# Altium footprint library PcbLib1.PcbLib: 14 footprints
Each footprint in its own frame and in the unit in brackets; x right, y up, seen from the top. Pads: shape width x height; smd on the part's side, far side on the other; paste and mask are expansions set on the pad; w line width, h text height; cw(c..) or ccw(c..) is an arc to the next point about the centre after c.
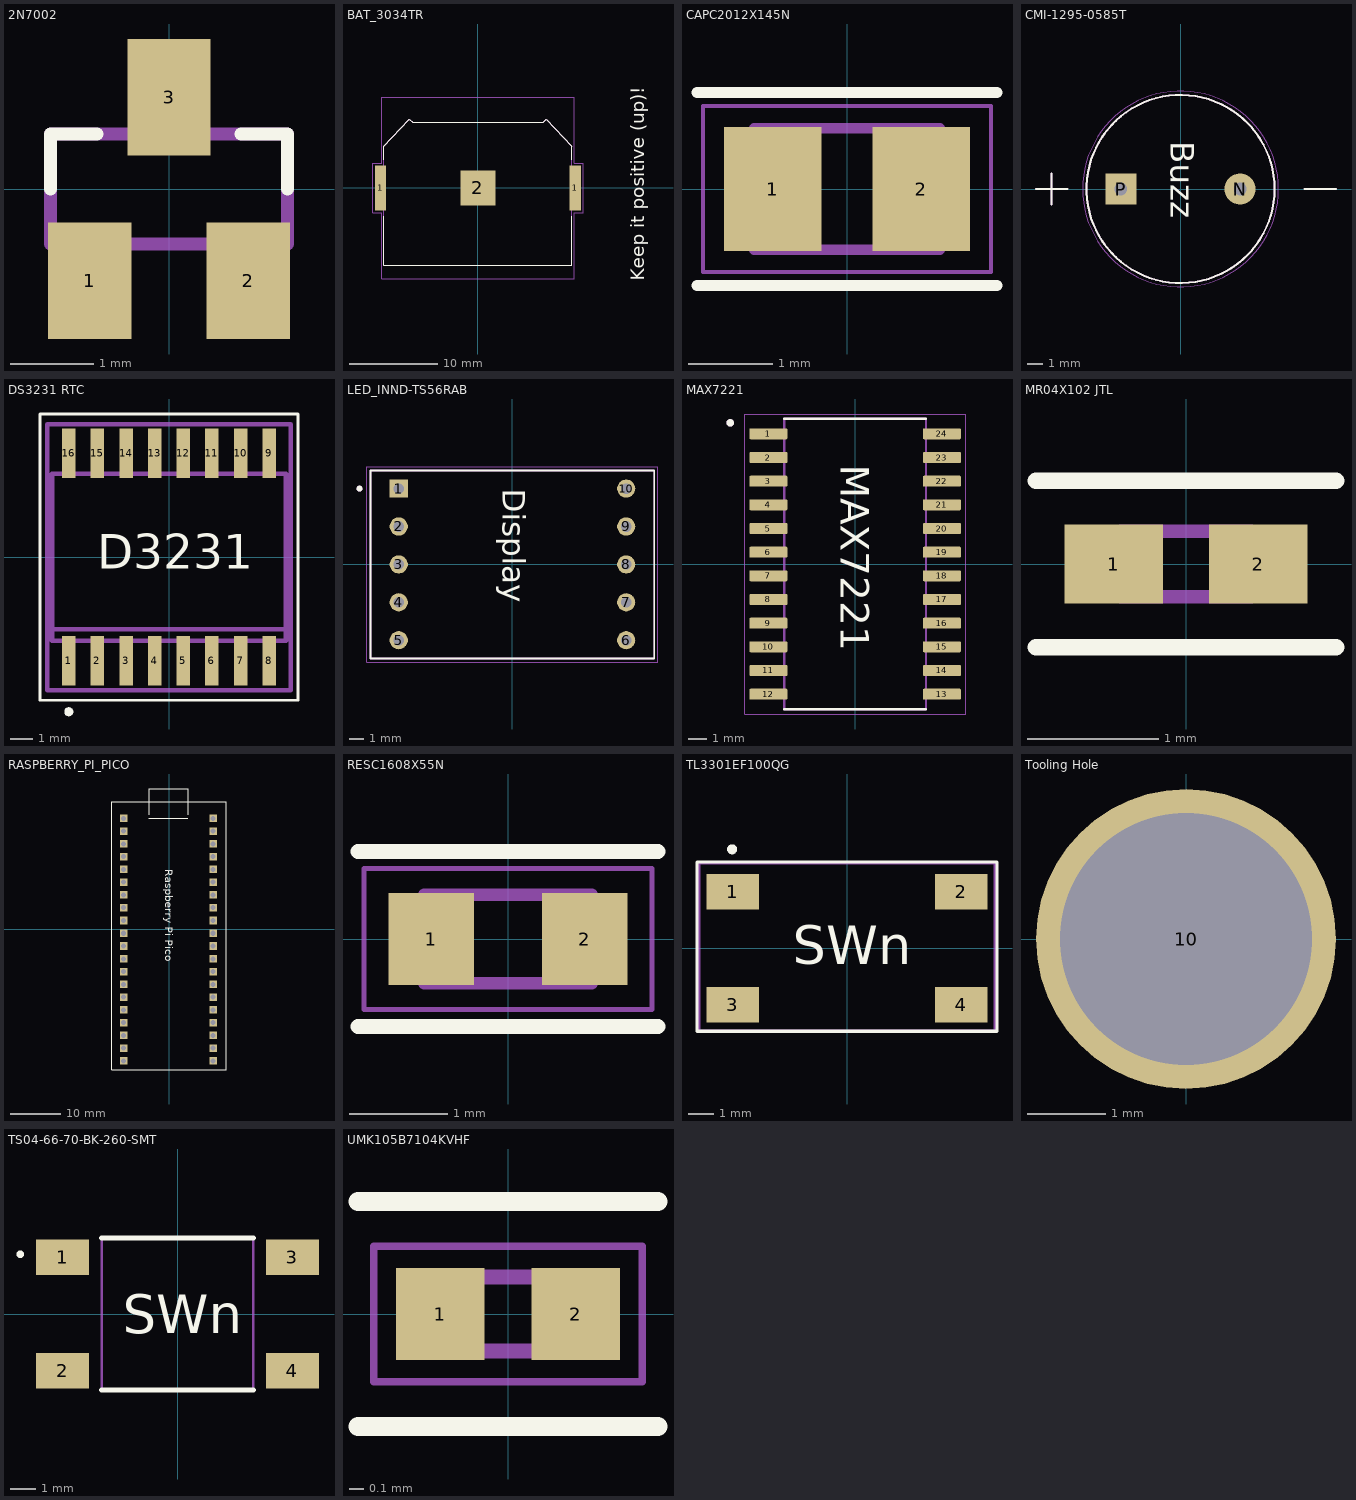
[diagram p0: the footprints below, top view; thin cyan lines are the x and y axes]

## 2N7002 [mm]
pads (3):
  rect 1x1.4 smd: 1(-0.95,-1.1) 2(0.95,-1.1) 3(0,1.1)
Top Overlay:
  lines w0.152: -1.422,0 -1.422,0.66 -0.864,0.66 ; 0.864,0.66 1.422,0.66 1.422,0
Mechanical 13:
  region: 0.229,0.713 -0.229,0.713 -0.229,1.295 0.229,1.295
  region: 1.168,-1.297 0.712,-1.297 0.712,-0.711 1.168,-0.711
  region: -0.711,-1.296 -1.169,-1.296 -1.169,-0.711 -0.711,-0.711
  lines w0.152: -1.422,-0.66 1.422,-0.66 1.422,0.66 -1.422,0.66 -1.422,-0.66
3D body "step_temp.STEP": height 1.12, standoff 0, extent -1.46,-1.185 1.46,1.185

## BAT_3034TR [mm]
height 4.31
pads (3):
  rect 1.27x5.08 smd: 1(-10.985,0) 1(10.985,0)
  rect 3.96x3.96 smd paste-3: 2(0,0)
Top Overlay:
  lines w0.127: -10.605,-3.175 -10.605,-8.729 10.605,-8.729 10.605,-3.175 ; -10.605,3.175 -10.605,4.723 -7.734,7.741 -7.366,7.391 7.366,7.391 7.734,7.741 10.605,4.723 10.605,3.175
  text "Keep it positive (up)!" at 18.796,-10.477 h1.52
Mechanical 13:
  lines w0.127: -10.605,-8.729 10.605,-8.729 10.605,4.723 7.734,7.741 7.366,7.391 -7.366,7.391 -7.734,7.741 -10.605,4.723 -10.605,-8.729
Mechanical 15:
  lines w0.05: -11.87,-2.79 -10.855,-2.79 -10.855,-10.25 10.855,-10.25 10.855,-2.79 11.87,-2.79 11.87,2.79 10.855,2.79 10.855,10.25 -10.855,10.25 -10.855,2.79 -11.87,2.79 -11.87,-2.79
3D body "step_temp.STEP": height 4.06, standoff 0, extent -11.62,-7.716 11.62,8.76

## CAPC2012X145N [mm]
pads (2):
  rect 1.15x1.47 smd: 1(-0.88,0) 2(0.88,0)
Top Overlay:
  lines w0.127: -1.778,-1.143 1.778,-1.143 ; -1.778,1.143 1.778,1.143
Mechanical 13:
  lines w0.127: -1.1,-0.72 1.1,-0.72 1.1,0.72 -1.1,0.72 -1.1,-0.72
Mechanical 15:
  lines w0.05: -1.708,-0.983 1.708,-0.983 1.708,0.983 -1.708,0.983 -1.708,-0.983
3D body "step_temp.STEP": height 1.45, standoff 0, extent -1,-0.625 1,0.625

## CMI-1295-0585T [mm]
pads (2):
  round 2 hole 0.8: N(3.8,0)
  rect 2x2 / inner round 2 / far side rect 2x2 hole 0.8: P(-3.8,0)
Top Overlay:
  circle w0.127: c0,0 r6
  lines w0.127: -9.22,0 -7.22,0 ; -8.22,-1 -8.22,1 ; 7.92,0 9.92,0
  text "Buzz" at -0.635,3.048 h1.52
Mechanical 13:
  circle w0.127: c0,0 r6
  lines w0.127: -9.22,0 -7.22,0 ; -8.22,-1 -8.22,1 ; 7.92,0 9.92,0
Mechanical 15:
  circle w0.05: c0,0 r6.25
3D body "step_temp.STEP": height 9, standoff -6, extent -6,-6 6,6

## DS3231 RTC [mm]
pads (16):
  rect 0.6x2.2 smd: 1(-4.445,-4.6) 2(-3.175,-4.6) 3(-1.905,-4.6) 4(-0.635,-4.6) 5(0.635,-4.6) 6(1.905,-4.6) 7(3.175,-4.6) 8(4.445,-4.6) 9(4.445,4.6) 10(3.175,4.6) 11(1.905,4.6) 12(0.635,4.6) 13(-0.635,4.6) 14(-1.905,4.6) 15(-3.175,4.6) 16(-4.445,4.6)
Top Overlay:
  circle w0.2: c-4.445,-6.858 r0.1
  lines w0.127: -5.715,-6.35 5.715,-6.35 5.715,6.35 -5.715,6.35 -5.715,-6.35
  text "D3231" at -3.175,-0.508 h1.52
Mechanical 13:
  region: -4.2,-5.32 -4.69,-5.32 -4.69,-3.8 -4.2,-3.8
  region: -2.93,-5.32 -3.42,-5.32 -3.42,-3.8 -2.93,-3.8
  region: -1.66,-5.32 -2.15,-5.32 -2.15,-3.8 -1.66,-3.8
  region: -0.39,-5.32 -0.88,-5.32 -0.88,-3.8 -0.39,-3.8
  region: 0.88,-5.32 0.39,-5.32 0.39,-3.8 0.88,-3.8
  region: 2.15,-5.32 1.66,-5.32 1.66,-3.8 2.15,-3.8
  region: 3.42,-5.32 2.93,-5.32 2.93,-3.8 3.42,-3.8
  region: 4.69,-5.32 4.2,-5.32 4.2,-3.8 4.69,-3.8
  region: 4.69,3.8 4.2,3.8 4.2,5.32 4.69,5.32
  region: 3.42,3.8 2.93,3.8 2.93,5.32 3.42,5.32
  region: 2.15,3.8 1.66,3.8 1.66,5.32 2.15,5.32
  region: 0.88,3.8 0.39,3.8 0.39,5.32 0.88,5.32
  region: -0.39,3.8 -0.88,3.8 -0.88,5.32 -0.39,5.32
  region: -1.66,3.8 -2.15,3.8 -2.15,5.32 -1.66,5.32
  region: -2.93,3.8 -3.42,3.8 -3.42,5.32 -2.93,5.32
  region: -4.2,3.8 -4.69,3.8 -4.69,5.32 -4.2,5.32
  lines w0.203: -5.19,-3.2 -5.19,-3.7 5.19,-3.7 5.19,-3.2 ; -5.19,-3.2 -5.19,3.7 5.19,3.7 5.19,-3.2 ; -5.19,-3.2 5.19,-3.2
Mechanical 15:
  lines w0.2: -5.395,-5.9 5.395,-5.9 5.395,5.9 -5.395,5.9 -5.395,-5.9
3D body "step_temp.STEP": height 2.65, standoff 0, extent -5.15,-5.162 5.15,5.162

## LED_INND-TS56RAB [mm]
height 8
pads (10):
  rect 1.218x1.218 / inner round 1.218 / far side rect 1.218x1.218 hole 0.71: 1(-7.62,5.08)
  round 1.218 hole 0.71: 2(-7.62,2.54) 3(-7.62,0) 4(-7.62,-2.54) 5(-7.62,-5.08) 6(7.62,-5.08) 7(7.62,-2.54) 8(7.62,0) 9(7.62,2.54) 10(7.62,5.08)
Top Overlay:
  circle w0.2: c-10.25,5.08 r0.1
  lines w0.127: -9.5,-6.3 -9.5,6.3 9.5,6.3 9.5,-6.3 -9.5,-6.3
  text "Display" at -0.635,5.08 h1.52
Mechanical 13:
  circle w0.2: c-10.25,5.08 r0.1
  lines w0.127: -9.5,-6.3 -9.5,6.3 9.5,6.3 9.5,-6.3 -9.5,-6.3
Mechanical 15:
  lines w0.05: -9.75,-6.55 -9.75,6.55 9.75,6.55 9.75,-6.55 -9.75,-6.55
3D body "step_temp.STEP": height 8, standoff -4.3, extent -9.5,-6.3 9.5,6.3

## MAX7221 [mm]
pads (24):
  rrect25% 2.05x0.59 smd: 1(-4.655,6.985) 2(-4.655,5.715) 3(-4.655,4.445) 4(-4.655,3.175) 5(-4.655,1.905) 6(-4.655,0.635) 7(-4.655,-0.635) 8(-4.655,-1.905) 9(-4.655,-3.175) 10(-4.655,-4.445) 11(-4.655,-5.715) 12(-4.655,-6.985) 13(4.655,-6.985) 14(4.655,-5.715) 15(4.655,-4.445) 16(4.655,-3.175) 17(4.655,-1.905) 18(4.655,-0.635) 19(4.655,0.635) 20(4.655,1.905) 21(4.655,3.175) 22(4.655,4.445) 23(4.655,5.715) 24(4.655,6.985)
Top Overlay:
  circle w0.2: c-6.705,7.575 r0.1
  lines w0.127: -3.8,-7.8 3.8,-7.8 ; -3.8,7.8 3.8,7.8
  text "MAX7221" at -0.762,5.334 h1.52
Mechanical 13:
  circle w0.2: c-6.705,7.575 r0.1
  lines w0.127: -3.8,-7.8 3.8,-7.8 3.8,7.8 -3.8,7.8 -3.8,-7.8
Mechanical 15:
  lines w0.05: -5.93,-8.05 5.93,-8.05 5.93,8.05 -5.93,8.05 -5.93,-8.05
3D body "MAX7221CWG+T.STEP": height 2.65, standoff 0, extent -5.162,-7.7 5.162,7.7

## MR04X102 JTL [mm] "1k 0402"
pads (2):
  rect 0.75x0.6 smd: 1(-0.55,0) 2(0.55,0)
Top Overlay:
  lines w0.127: -1.143,-0.635 1.143,-0.635 ; -1.143,0.635 1.143,0.635
Mechanical 15:
  lines w0.1: -0.5,-0.25 0.5,-0.25 0.5,0.25 -0.5,0.25 -0.5,-0.25
3D body "MR04X102_JTL.stp": height 0.4, standoff 0, extent -0.5,-0.25 0.5,0.25

## RASPBERRY_PI_PICO [mil]
pads (40):
  rect 59.37x59.37 / inner round 59.37 / far side rect 59.37x59.37 hole 39.37: 3V3(345,470) 3V3_EN(345,570) ADC_VREF(345,370) AGND(345,170) GND(345,670) GND2(345,-330) GND3(345,-830) GND4(-355,670) GND5(-355,170) GND6(-355,-330) GND7(-355,-830) GP0(-355,870) GP1(-355,770) GP2(-355,570) GP3(-355,470) GP4(-355,370) GP5(-355,270) GP6(-355,70) GP7(-355,-30) GP8(-355,-130) GP9(-355,-230) GP10(-355,-430) GP11(-355,-530) GP12(-355,-630) GP13(-355,-730) GP14(-355,-930) GP15(-355,-1030) GP16(345,-1030) GP17(345,-930) GP18(345,-730) GP19(345,-630) GP20(345,-530) GP21(345,-430) GP22(345,-230) GP26_A0(345,-30) GP27_A1(345,70) GP28_A2(345,270) RUN(345,-130) VBUS(345,870) VSYS(345,770)
Top Overlay:
  lines w6: -158.28,870 145,870 ; -153.28,900 -153.28,1100 150,1100 150,900 ; -450,-1100 -450,1000 450,1000 450,-1100 -450,-1100
  text "Raspberry Pi Pico" at -30.01,470 h60
3D body "Header, Male, 2.54mm, 1x20.STEP": height 220.11, standoff -234.22, extent 295,-1080 395,920
3D body "Header, Male, 2.54mm, 1x20.STEP": height 220.11, standoff -234.22, extent -404.76,-1079.44 -304.76,920.56
3D body "RASPBERRY PI PICO--3DModel-STEP-269445.STEP": height 248.85, standoff 102, extent -418.39,-1083.94 408.39,975.12

## RESC1608X55N [mm] "21k 0402"
pads (2):
  rect 0.87x0.93 smd: 1(-0.78,0) 2(0.78,0)
Top Overlay:
  lines w0.152: -1.524,-0.889 1.524,-0.889 ; -1.524,0.889 1.524,0.889
Mechanical 13:
  lines w0.127: -0.85,-0.45 0.85,-0.45 0.85,0.45 -0.85,0.45 -0.85,-0.45
Mechanical 15:
  lines w0.05: -1.465,-0.715 1.465,-0.715 1.465,0.715 -1.465,0.715 -1.465,-0.715
3D body "step_temp.STEP": height 0.55, standoff 0, extent -0.8,-0.4 0.8,0.4

## TL3301EF100QG [mm] "https://www.mouser.pl/ProductDetail/E-Switch/TL3301EF100QG?qs=iWbXB9lueyBOmcew73zYTQ%3D%3D"
pads (4):
  rect 2.1x1.4 smd: 1(-4.55,2.25) 2(4.55,2.25) 3(-4.55,-2.25) 4(4.55,-2.25)
Top Overlay:
  circle w0.2: c-4.572,3.937 r0.1
  lines w0.127: -5.969,-3.302 -5.969,3.429 5.969,3.429 5.969,-3.302 -5.969,-3.302
  text "SWn" at -2.159,-0.635 h1.52
Mechanical 15:
  lines w0.127: -5.9,-3.3 5.9,-3.3 5.9,3.4 -5.9,3.4 -5.9,2.9 -5.9,2.8 -5.9,-3.3
3D body "step_temp.STEP": height 7.38, standoff -0.02, extent -5,-3 5,3

## Tooling Hole [mm]
pads (1):
  round 3.81 hole 3.2: 10(0,0)

## TS04-66-70-BK-260-SMT [mm] "SMD button"
pads (4):
  rect 2.1x1.4 smd: 1(-4.55,2.25) 2(-4.55,-2.25) 3(4.55,2.25) 4(4.55,-2.25)
Top Overlay:
  lines w0.2: -3,-3 3,-3 ; -3,3 3,3 ; -6.223,2.313 cw(c-6.223,2.363) -6.223,2.413 cw(c-6.223,2.363) -6.223,2.313
  text "SWn" at -2.159,-0.762 h1.52
Mechanical 15:
  lines w0.1: -3,-3 3,-3 3,3 -3,3 -3,-3
3D body "TS04-66-70-BK-260-SMT.stp": height 7, standoff -0.1, extent -4.966,-3.003 5.034,2.997

## UMK105B7104KVHF [mm]
pads (2):
  rect 0.6x0.62 smd: 1(-0.46,0) 2(0.46,0)
Top Overlay:
  lines w0.127: -1.016,-0.762 1.016,-0.762 ; -1.016,0.762 1.016,0.762
Mechanical 15:
  lines w0.1: -0.5,-0.25 0.5,-0.25 0.5,0.25 -0.5,0.25 -0.5,-0.25
Mechanical 20:
  lines w0.05: -0.91,-0.46 0.91,-0.46 0.91,0.46 -0.91,0.46 -0.91,-0.46
3D body "EMK105B7104KVHF.STEP": height 0.5, standoff 0, extent -0.502,-0.275 0.498,0.275